# Altium footprint library 新通信板.PcbLib: 39 footprints (part 3 of 3)
Each footprint in its own frame and in the unit in brackets; x right, y up, seen from the top. Pads: shape width x height; smd on the part's side, far side on the other; paste and mask are expansions set on the pad; w line width, h text height; cw(c..) or ccw(c..) is an arc to the next point about the centre after c.
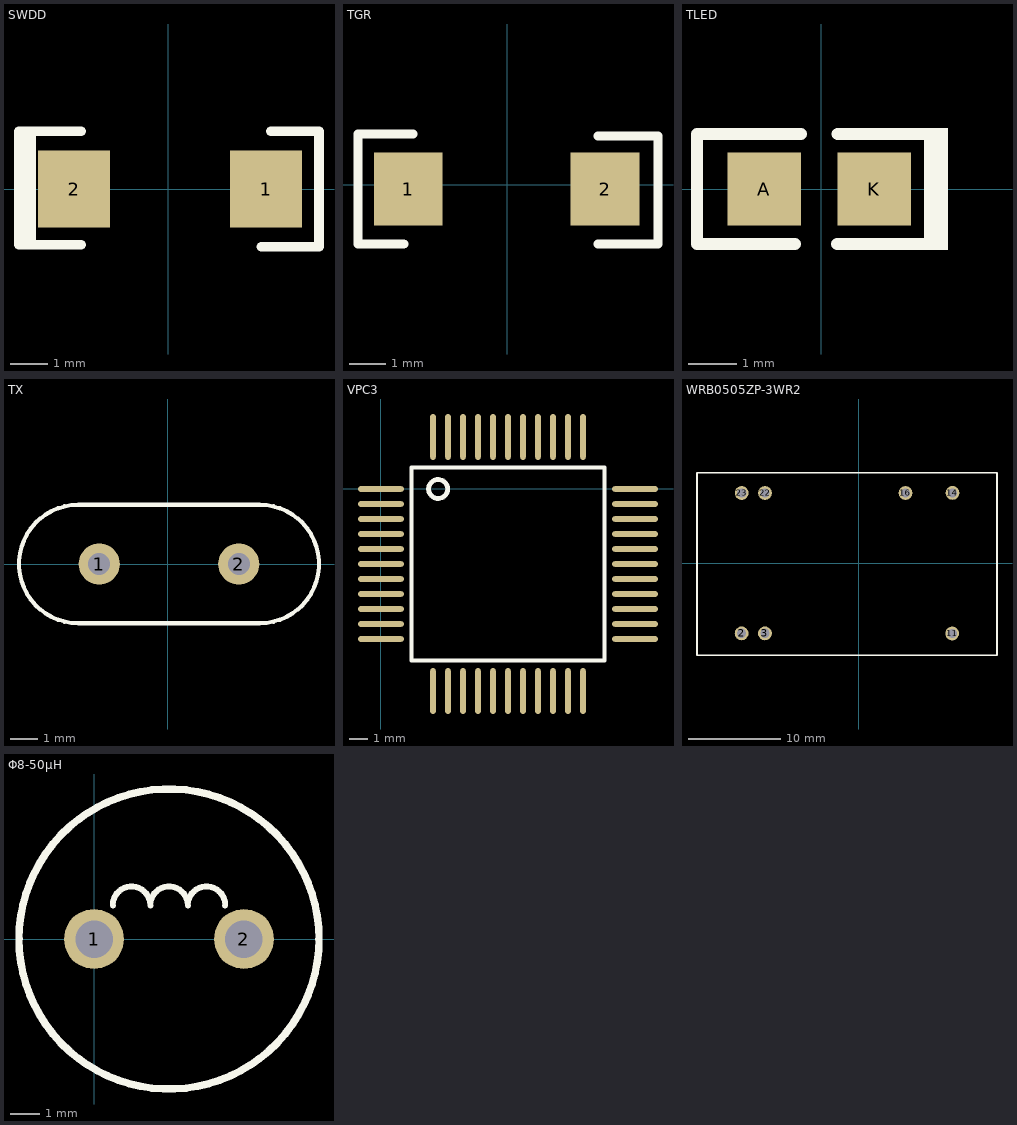
[diagram p2: the footprints below, top view; thin cyan lines are the x and y axes]

## SWDD [mil]
pads (2):
  rect 75x80 smd: 1(101.94,0.4) 2(-98.07,0.4)
Top Overlay:
  lines w10: -155.56,58.4 -155.56,-57.6 -90.57,-57.6 ; -155.56,60.4 -90.57,60.4 ; -148.06,-57.6 -148.06,58.4 ; -143.07,-57.6 -143.07,58.4 ; 96.93,-59.6 156.93,-59.6 ; 106.93,60.4 156.93,60.4 ; 156.93,-57.6 156.93,58.4

## TGR [mil]
pads (2):
  rect 75x80 smd: 1(-107.94,-4.4) 2(107.07,-4.4)
Top Overlay:
  lines w10: -162.93,-64.4 -112.93,-64.4 ; -162.93,-62.4 -162.93,53.6 ; -162.93,55.6 -102.93,55.6 ; 99.57,-64.4 165,-64.4 165,53.6 99.57,53.6

## TLED [mil]
pads (2):
  rect 60x60 smd: A(-46.46,0.16) K(43.54,0.16)
Top Overlay:
  region: 103.54,-49.79 103.54,50.21 83.86,50.21 83.86,-49.79
  lines w10: -21.46,-44.84 -101.46,-44.84 -101.46,45.16 -16.46,45.16 ; 13.23,-44.84 98.54,-44.84 ; 13.54,45.16 98.54,45.16

## TX [mm]
height 4
pads (2):
  round 1.5 hole 0.8: 1(-2.499,0.015) 2(2.581,0.015)
Top Overlay:
  lines w0.15: -3.261,-2.144 cw(c-3.261,0.015) -3.261,2.174 3.343,2.174 cw(c3.343,0.015) 3.343,-2.144 -3.261,-2.144

## VPC3 [mm]
pads (44):
  oval 2.45x0.3 smd: 1(0,0) 2(0,-0.8) 3(0,-1.6) 4(0,-2.4) 5(0,-3.2) 6(0,-4) 7(0,-4.8) 8(0,-5.6) 9(0,-6.4) 10(0,-7.2) 11(0,-8) 23(13.55,-8) 24(13.55,-7.2) 25(13.55,-6.4) 26(13.55,-5.6) 27(13.55,-4.8) 28(13.55,-4) 29(13.55,-3.2) 30(13.55,-2.4) 31(13.55,-1.6) 32(13.55,-0.8) 33(13.55,0)
  oval 0.3x2.45 smd: 12(2.775,-10.775) 13(3.575,-10.775) 14(4.375,-10.775) 15(5.175,-10.775) 16(5.975,-10.775) 17(6.775,-10.775) 18(7.575,-10.775) 19(8.375,-10.775) 20(9.175,-10.775) 21(9.975,-10.775) 22(10.775,-10.775) 34(10.775,2.775) 35(9.975,2.775) 36(9.175,2.775) 37(8.375,2.775) 38(7.575,2.775) 39(6.775,2.775) 40(5.975,2.775) 41(5.175,2.775) 42(4.375,2.775) 43(3.575,2.775) 44(2.775,2.775)
Top Overlay:
  circle w0.254: c3.048,0 r0.508
  lines w0.2: 1.625,-9.15 11.925,-9.15 11.925,1.15 1.625,1.15 1.625,-9.15

## WRB0505ZP-3WR2 [mm]
height 13
pads (7):
  round 1.5 hole 1: 2(-12.7,-7.61) 3(-10.17,-7.61) 11(10.15,-7.62) 14(10.18,7.63) 16(5.08,7.62) 22(-10.16,7.62) 23(-12.69,7.62)
Top Overlay:
  lines w0.2: -17.54,-9.99 -17.54,9.82 15.01,9.82 15.01,-9.99 -17.54,-9.99

## Φ8-50μH [mil]
pads (2):
  round 80 hole 50: 1(0,0) 2(200,0)
Top Overlay:
  circle w10: c100,0 r200
  lines w8: 25,45 cw(c50,45) 75,45 cw(c100,45) 125,45 cw(c150,45) 175,45